# Altium schematic symbol library USB_soket.SchLib: 1 symbol
Pins are listed as number, name and electrical type; pins without a type are passive.

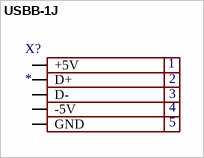
[diagram p0: symbol USBB-1J]

## USBB-1J
designator X?
pins: 1 +5V, 2 D+, 3 D-, 4 -5V, 5 GND